# EAGLE library part SAMTEC-TSM-116-01-X-SV-LC (library SAMTEC-TSM-116-01-X-SV-LC)
Check prices <https://pricing.snapeda.com/parts/TSM-116-01-S-SV-LC/Samtec/view-part?ref=eda>
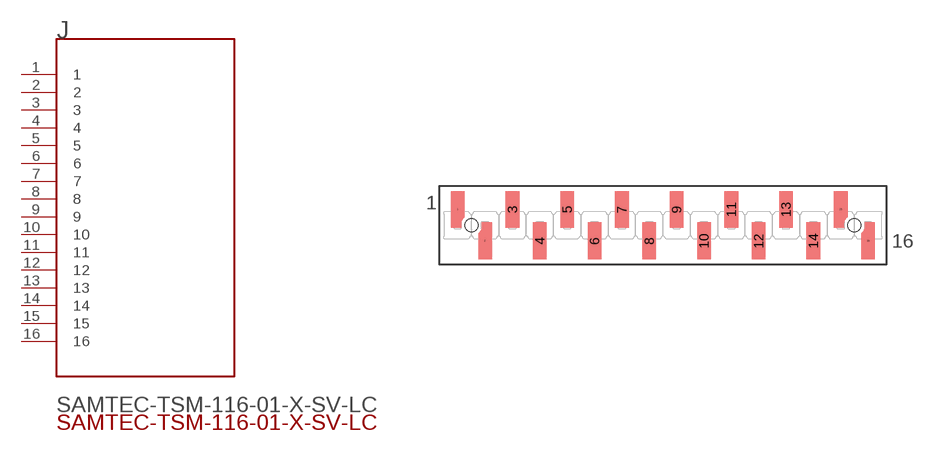
[diagram p0: symbol with the pads of SAMTEC-TSM-116-01-X-SV-LC; footprint SAMTEC-TSM-116-01-X-SV-LC]

Designator prefix J

## SAMTEC-TSM-116-01-X-SV-LCJ (Availability: Warning; Description: Connector Header Surface Mount 16 position 0.100 (2.54mm); MF: Samtec; MP: TSM-116-01-S-SV-LC; Package: None; Price: None; Purchase-URL: https://pricing.snapeda.com/search/part/TSM-116-01-S-SV-LC/?ref=eda)  [SAMTEC-TSM-116-01-X-SV-LC]
1  1
2  2
3  3
4  4
5  5
6  6
7  7
8  8
9  9
10  10
11  11
12  12
13  13
14  14
15  15
16  16

## Footprint SAMTEC-TSM-116-01-X-SV-LC (pad centres in mm)
translated Allegro footprint
smd 0.01 x 0.01: 1 -19.05,1.46; 2 -16.51,-1.46; 15 16.51,1.46; 16 19.05,-1.46
smd 1.27 x 3.43: 3 -13.97,1.46; 4 -11.43,-1.46; 5 -8.89,1.46; 6 -6.35,-1.46; 7 -3.81,1.46; 8 -1.27,-1.46; 9 1.27,1.46; 10 3.81,-1.46; 11 6.35,1.46; 12 8.89,-1.46; 13 11.43,1.46; 14 13.97,-1.46
hole 1.19 at 17.78,0
hole 1.19 at -17.78,0